# Altium schematic symbol library SM6T15A.SchLib: 2 symbols
Pins are listed as number, name and electrical type; pins without a type are passive.

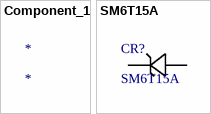
[diagram p0: symbols Component_1 to SM6T15A]

## Component_1
designator *

## SM6T15A
designator CR?
No Description Available; Vendor: STMicroelectronics; Built_By: EMA_UL_Team; SourceLibrary: Update_to_database_2020-12-07; Type: DEV; Manufacturer_Part_Number: SM6T15A; Copyright: Copyright (C) 2018 Accelerated Designs. All rights reserved; RefDes: RefDes
footprint SMB_STM
pins: 1, 2